# Altium schematic symbol library DRV8316CTRGFR.SchLib: 1 symbol
Pins are listed as number, name and electrical type; pins without a type are passive.

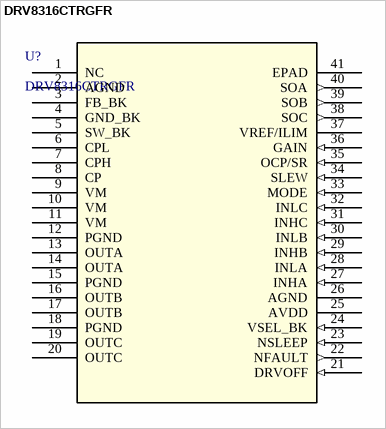
[diagram p0: symbol DRV8316CTRGFR]

## DRV8316CTRGFR
designator U?
No Description Available; Mfr_Name: Texas Instruments; Type: DEV; Copyright: Copyright (C) 2024 Ultra Librarian. All rights reserved.; Manufacturer_Part_Number: DRV8316CTRGFR; RefDes: RefDes
footprint VQFN40_RGF_TEX
pins: 1 NC, 2 AGND (power), 3 FB_BK (power), 4 GND_BK (power), 5 SW_BK (power), 6 CPL (power), 7 CPH (power), 8 CP (power), 9 VM (power), 10 VM (power), 11 VM (power), 12 PGND (power), 13 OUTA (power), 14 OUTA (power), 15 PGND (power), 16 OUTB (power), 17 OUTB (power), 18 PGND (power), 19 OUTC (power), 20 OUTC (power), 21 DRVOFF (in), 22 NFAULT (out), 23 NSLEEP (in), 24 VSEL_BK (in), 25 AVDD (power), 26 AGND (power), 27 INHA (in), 28 INLA (in), 29 INHB (in), 30 INLB (in), 31 INHC (in), 32 INLC (in), 33 MODE (in), 34 SLEW (in), 35 OCP/SR (in), 36 GAIN (in), 37 VREF/ILIM (power), 38 SOC (out), 39 SOB (out), 40 SOA (out), 41 EPAD (power)